# EAGLE library part AT32UC3B064/0128/0256 (library atmel-avr32-michel)
AT32UC3B0128/0256/0512
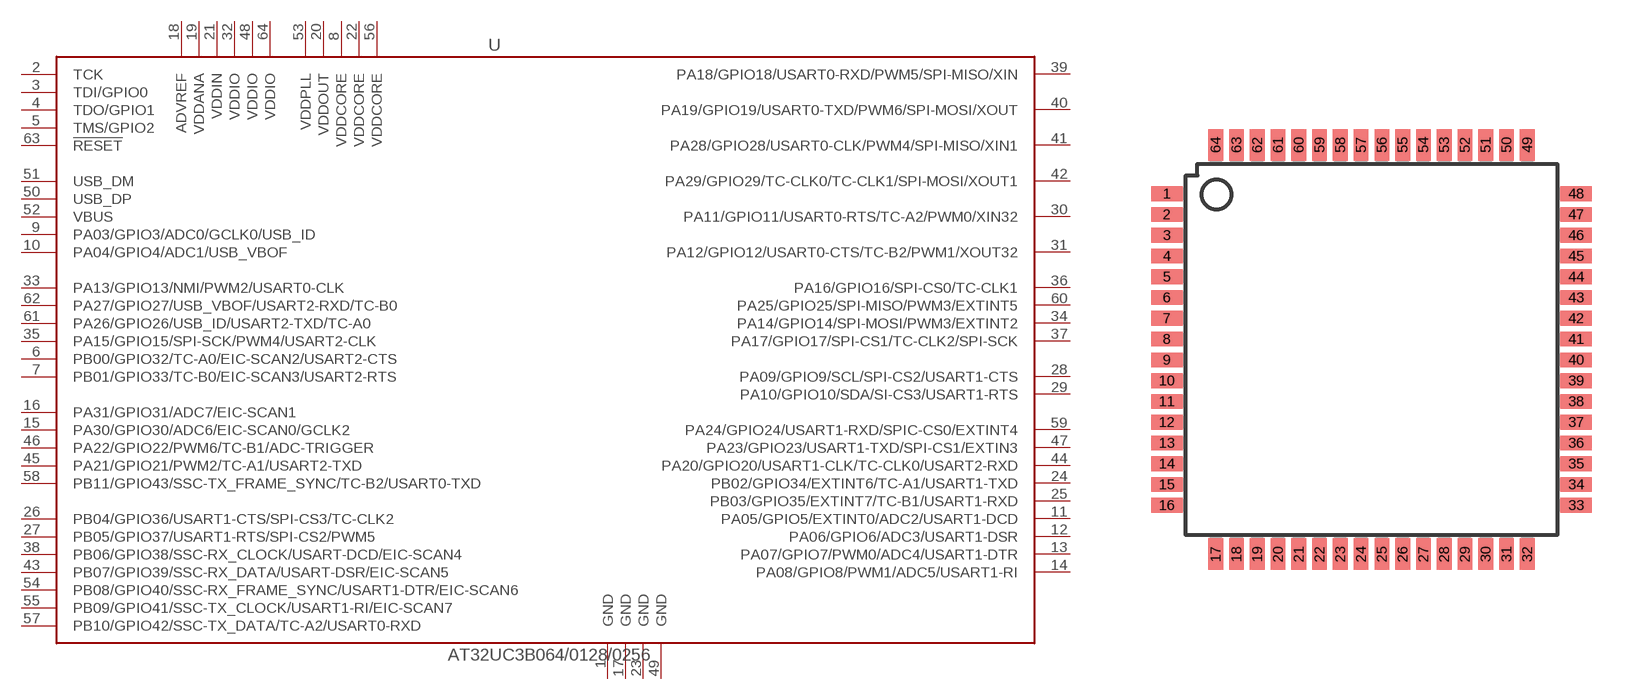
[diagram p7: symbol with the pads of TQFP64; footprint TQFP64]

Designator prefix U

## AT32UC3B064/0128/0256  [TQFP64]
1  GND  pwr
2  TCK  in
3  TDI/GPIO0
4  TDO/GPIO1
5  TMS/GPIO2
6  PB00/GPIO32/TC-A0/EIC-SCAN2/USART2-CTS
7  PB01/GPIO33/TC-B0/EIC-SCAN3/USART2-RTS
8  VDDCORE  pwr
9  PA03/GPIO3/ADC0/GCLK0/USB_ID
10  PA04/GPIO4/ADC1/USB_VBOF
11  PA05/GPIO5/EXTINT0/ADC2/USART1-DCD
12  PA06/GPIO6/ADC3/USART1-DSR  in
13  PA07/GPIO7/PWM0/ADC4/USART1-DTR  in
14  PA08/GPIO8/PWM1/ADC5/USART1-RI  in
15  PA30/GPIO30/ADC6/EIC-SCAN0/GCLK2  in
16  PA31/GPIO31/ADC7/EIC-SCAN1
17  GND  pwr
18  ADVREF  pwr
19  VDDANA  pwr
20  VDDOUT  pwr
21  VDDIN  pwr
22  VDDCORE  pwr
23  GND  pwr
24  PB02/GPIO34/EXTINT6/TC-A1/USART1-TXD
25  PB03/GPIO35/EXTINT7/TC-B1/USART1-RXD
26  PB04/GPIO36/USART1-CTS/SPI-CS3/TC-CLK2
27  PB05/GPIO37/USART1-RTS/SPI-CS2/PWM5
28  PA09/GPIO9/SCL/SPI-CS2/USART1-CTS  in
29  PA10/GPIO10/SDA/SI-CS3/USART1-RTS  in
30  PA11/GPIO11/USART0-RTS/TC-A2/PWM0/XIN32
31  PA12/GPIO12/USART0-CTS/TC-B2/PWM1/XOUT32
32  VDDIO  pwr
33  PA13/GPIO13/NMI/PWM2/USART0-CLK
34  PA14/GPIO14/SPI-MOSI/PWM3/EXTINT2
35  PA15/GPIO15/SPI-SCK/PWM4/USART2-CLK
36  PA16/GPIO16/SPI-CS0/TC-CLK1
37  PA17/GPIO17/SPI-CS1/TC-CLK2/SPI-SCK
38  PB06/GPIO38/SSC-RX_CLOCK/USART-DCD/EIC-SCAN4
39  PA18/GPIO18/USART0-RXD/PWM5/SPI-MISO/XIN
40  PA19/GPIO19/USART0-TXD/PWM6/SPI-MOSI/XOUT
41  PA28/GPIO28/USART0-CLK/PWM4/SPI-MISO/XIN1
42  PA29/GPIO29/TC-CLK0/TC-CLK1/SPI-MOSI/XOUT1
43  PB07/GPIO39/SSC-RX_DATA/USART-DSR/EIC-SCAN5
44  PA20/GPIO20/USART1-CLK/TC-CLK0/USART2-RXD
45  PA21/GPIO21/PWM2/TC-A1/USART2-TXD
46  PA22/GPIO22/PWM6/TC-B1/ADC-TRIGGER
47  PA23/GPIO23/USART1-TXD/SPI-CS1/EXTIN3
48  VDDIO  pwr
49  GND  pwr
50  USB_DP
51  USB_DM
52  VBUS  in
53  VDDPLL  pwr
54  PB08/GPIO40/SSC-RX_FRAME_SYNC/USART1-DTR/EIC-SCAN6
55  PB09/GPIO41/SSC-TX_CLOCK/USART1-RI/EIC-SCAN7
56  VDDCORE  pwr
57  PB10/GPIO42/SSC-TX_DATA/TC-A2/USART0-RXD
58  PB11/GPIO43/SSC-TX_FRAME_SYNC/TC-B2/USART0-TXD
59  PA24/GPIO24/USART1-RXD/SPIC-CS0/EXTINT4
60  PA25/GPIO25/SPI-MISO/PWM3/EXTINT5
61  PA26/GPIO26/USB_ID/USART2-TXD/TC-A0
62  PA27/GPIO27/USB_VBOF/USART2-RXD/TC-B0
63  !RESET
64  VDDIO  pwr

## Footprint TQFP64 (pad centres in mm)
Thin Plasic Quad Flat Package
smd 1.194 x 0.559: 1 -7.76,5.905; 2 -7.76,5.118; 3 -7.76,4.331; 4 -7.76,3.543; 5 -7.76,2.756; 6 -7.76,1.968; 7 -7.76,1.181; 8 -7.76,0.394; 9 -7.76,-0.394; 10 -7.76,-1.181; 11 -7.76,-1.968; 12 -7.76,-2.756; 13 -7.76,-3.543; 14 -7.76,-4.331; 15 -7.76,-5.118; 16 -7.76,-5.905; 33 7.76,-5.905; 34 7.76,-5.118; 35 7.76,-4.331; 36 7.76,-3.543; 37 7.76,-2.756; 38 7.76,-1.968; 39 7.76,-1.181; 40 7.76,-0.394; 41 7.76,0.394; 42 7.76,1.181; 43 7.76,1.968; 44 7.76,2.756; 45 7.76,3.543; 46 7.76,4.331; 47 7.76,5.118; 48 7.76,5.905
smd 0.559 x 1.194: 17 -5.905,-7.76; 18 -5.118,-7.76; 19 -4.331,-7.76; 20 -3.543,-7.76; 21 -2.756,-7.76; 22 -1.968,-7.76; 23 -1.181,-7.76; 24 -0.394,-7.76; 25 0.394,-7.76; 26 1.181,-7.76; 27 1.968,-7.76; 28 2.756,-7.76; 29 3.543,-7.76; 30 4.331,-7.76; 31 5.118,-7.76; 32 5.905,-7.76; 49 5.905,7.76; 50 5.118,7.76; 51 4.331,7.76; 52 3.543,7.76; 53 2.756,7.76; 54 1.968,7.76; 55 1.181,7.76; 56 0.394,7.76; 57 -0.394,7.76; 58 -1.181,7.76; 59 -1.968,7.76; 60 -2.756,7.76; 61 -3.543,7.76; 62 -4.331,7.76; 63 -5.118,7.76; 64 -5.905,7.76